# Altium schematic symbol library MOSFET,P Ch,30V,10A.Schlib: 1 symbol
Pins are listed as number, name and electrical type; pins without a type are passive.

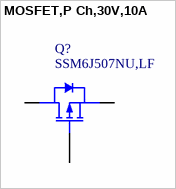
[diagram p0: symbol MOSFET,P Ch,30V,10A]

## MOSFET,P Ch,30V,10A
designator Q?, comment SSM6J507NU,LF
P-Channel 30 V 10A (Ta) 1.25W (Ta) Surface Mount 6-UDFNB (2x2)
pins: 1 D, 2 G, 3 S